# Altium schematic symbol library Device_sch_list.SchLib: 48 symbols
Pins are listed as number, name and electrical type; pins without a type are passive.

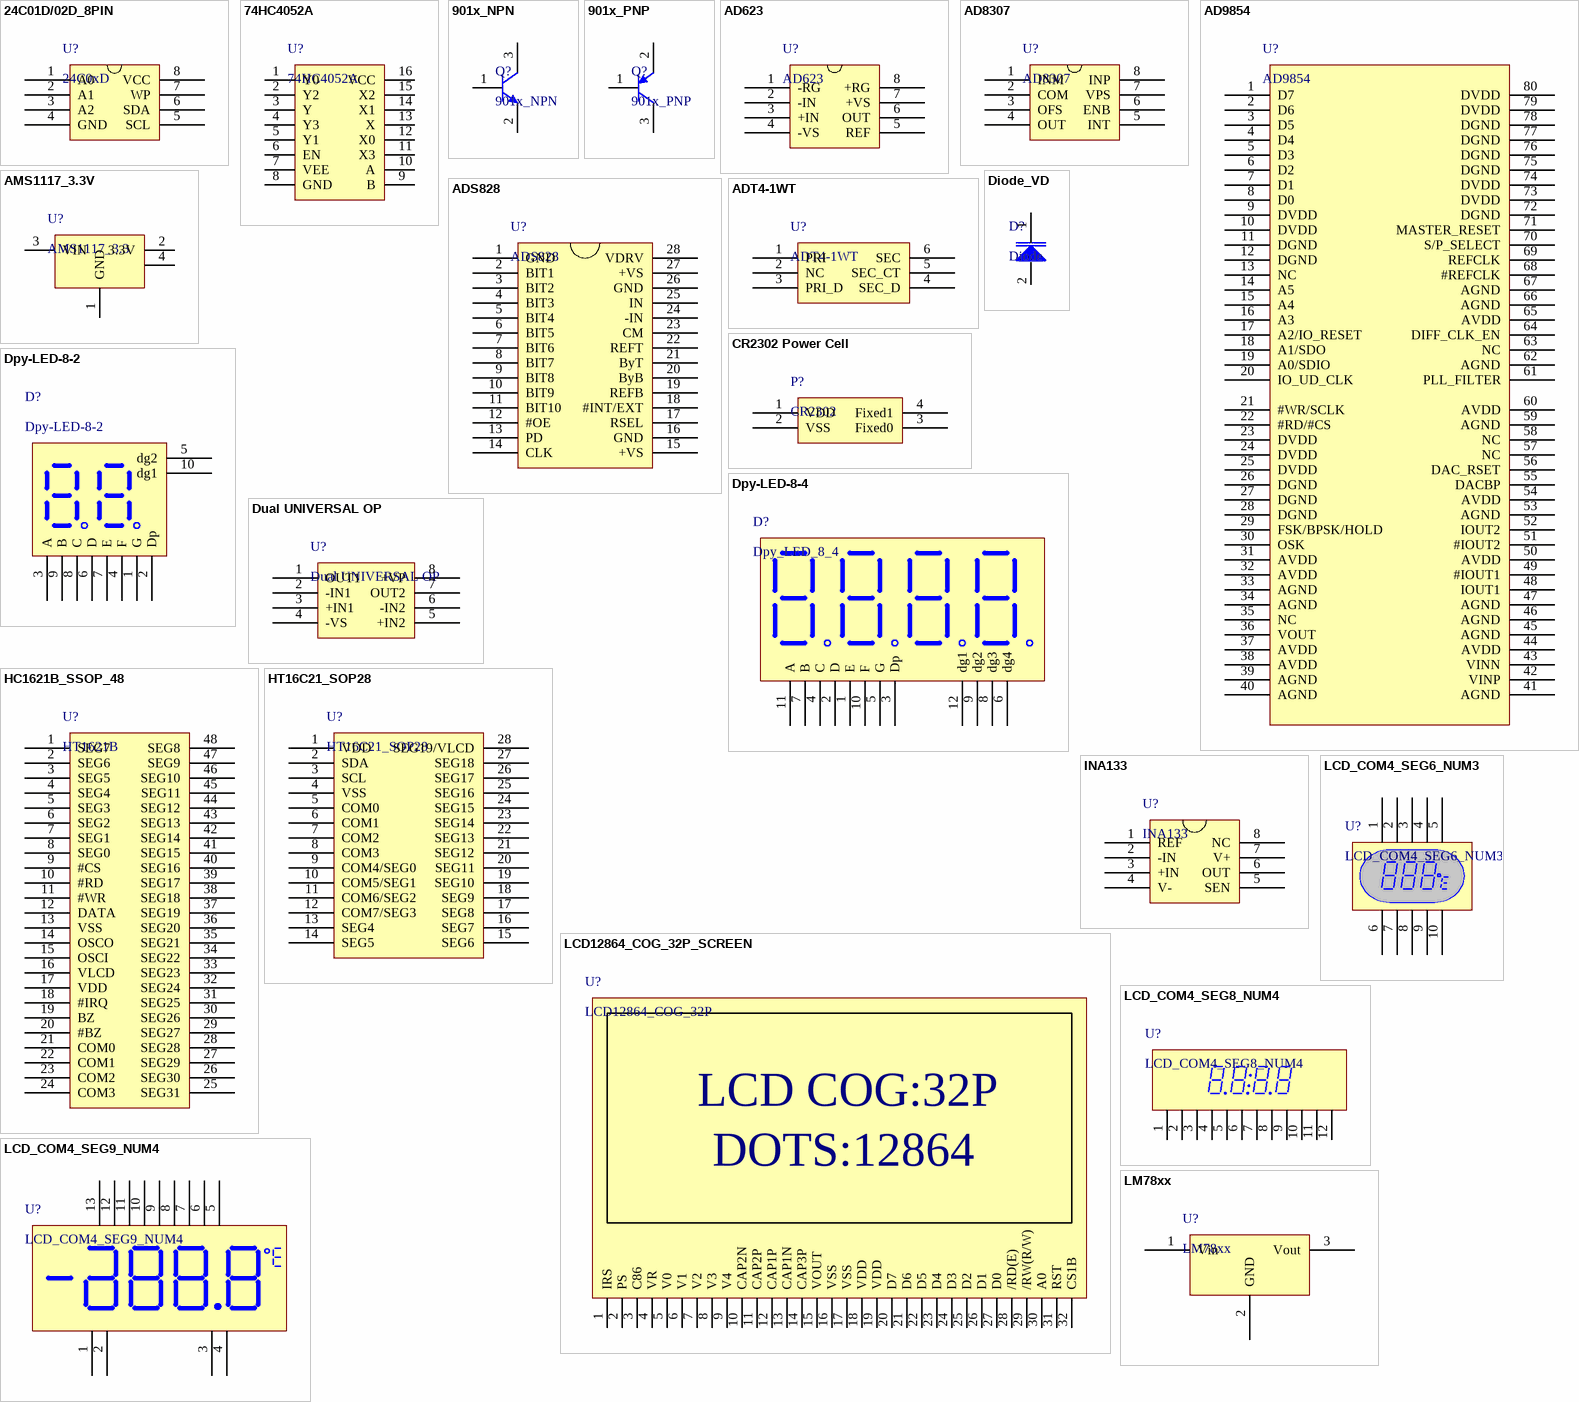
[diagram p0: symbols 24C01D/02D_8PIN to LM78xx]

## 24C01D/02D_8PIN
designator U?, comment 24C0xD
EEPROM with I2C BUS
pins: 1 A0, 2 A1, 3 A2, 4 GND, 5 SCL, 6 SDA, 7 WP, 8 VCC

## 74HC4052A
designator U?
74HC4052A is a common use analog switch.
footprint SO16
footprint SO16W
pins: 1 Y0, 2 Y2, 3 Y, 4 Y3, 5 Y1, 6 EN, 7 VEE, 8 GND, 9 B, 10 A, 11 X3, 12 X0, 13 X, 14 X1, 15 X2, 16 VCC

## 901x_NPN
designator Q?
BJT
footprint SOT-23
pins: 1 B, 2 E, 3 C

## 901x_PNP
designator Q?
footprint SOT-23
pins: 1 B, 2 E, 3 C

## AD623
designator U?
Instrument Amplifier
footprint SO-8
pins: 1 -RG, 2 -IN, 3 +IN, 4 -VS, 5 REF, 6 OUT, 7 +VS, 8 +RG

## AD8307
designator U?
LOG Amplifier 90dB DC to 900MHz
footprint SO8
pins: 1 INM, 2 COM, 3 OFS, 4 OUT, 5 INT, 6 ENB, 7 VPS, 8 INP

## AD9854
designator U?
DDS_300M
footprint TQFP80_with_Pad
pins: 1 D7, 2 D6, 3 D5, 4 D4, 5 D3, 6 D2, 7 D1, 8 D0, 9 DVDD, 10 DVDD, 11 DGND, 12 DGND, 13 NC, 14 A5, 15 A4, 16 A3, 17 A2/IO_RESET, 18 A1/SDO, 19 A0/SDIO, 20 IO_UD_CLK, 21 #WR/SCLK, 22 #RD/#CS, 23 DVDD, 24 DVDD, 25 DVDD, 26 DGND, 27 DGND, 28 DGND, 29 FSK/BPSK/HOLD, 30 OSK, 31 AVDD, 32 AVDD, 33 AGND, 34 AGND, 35 NC, 36 VOUT, 37 AVDD, 38 AVDD, 39 AGND, 40 AGND, 41 AGND, 42 VINP, 43 VINN, 44 AVDD, 45 AGND, 46 AGND, 47 AGND, 48 IOUT1, 49 #IOUT1, 50 AVDD, 51 #IOUT2, 52 IOUT2, 53 AGND, 54 AVDD, 55 DACBP, 56 DAC_RSET, 57 NC, 58 NC, 59 AGND, 60 AVDD, 61 PLL_FILTER, 62 AGND, 63 NC, 64 DIFF_CLK_EN, 65 AVDD, 66 AGND, 67 AGND, 68 #REFCLK, 69 REFCLK, 70 S/P_SELECT, 71 MASTER_RESET, 72 DGND, 73 DVDD, 74 DVDD, 75 DGND, 76 DGND, 77 DGND, 78 DGND, 79 DVDD, 80 DVDD

## ADS828
designator U?
High speed ADC with 10 bitwidth & differential port, 75MSPS max
footprint SSOP-28
pins: 1 GND, 2 BIT1, 3 BIT2, 4 BIT3, 5 BIT4, 6 BIT5, 7 BIT6, 8 BIT7, 9 BIT8, 10 BIT9, 11 BIT10, 12 #OE, 13 PD, 14 CLK, 15 +VS, 16 GND, 17 RSEL, 18 #INT/EXT, 19 REFB, 20 ByB, 21 ByT, 22 REFT, 23 CM, 24 -IN, 25 IN, 26 GND, 27 +VS, 28 VDRV

## ADT4-1WT
designator U?
IP Transformer
pins: 1 PRI, 2 NC, 3 PRI_D, 4 SEC_D, 5 SEC_CT, 6 SEC

## AMS1117_3.3V
designator U?, comment AMS1117_3.3
POWER_3.3V
pins: 1 GND, 2 3.3V, 3 VIN, 4 3.3V

## CR2302 Power Cell
designator P?, comment CR2302
CR2302 Power Cell
pins: 1 VDD, 2 VSS, 3 Fixed0, 4 Fixed1

## Diode_VD
designator D?, comment Diode
RF
pins: 1 14, 2 13

## Dpy-LED-8-2
designator D?
Led Segment
footprint LED_SEG_8_2 (LED_SEGMENT)
pins: 1 G, 2 Dp, 3 A, 4 F, 5 dg2, 6 D, 7 E, 8 C, 9 B, 10 dg1

## Dpy-LED-8-4
designator D?, comment Dpy_LED_8_4
Led Segment
footprint LED_SEG_8_4 (LED_SEGMENT)
pins: 1 E, 2 D, 3 Dp, 4 C, 5 G, 6 dg4, 7 B, 8 dg3, 9 dg2, 10 F, 11 A, 12 dg1

## Dual UNIVERSAL OP
designator U?
Dual Universal OP-Amplifier
footprint SO8
footprint DIP8
pins: 1 OUT1, 2 -IN1, 3 +IN1, 4 -VS, 5 +IN2, 6 -IN2, 7 OUT2, 8 +VP

## HC1621B_SSOP_48
designator U?, comment HT1621B
LCD Driver
footprint SSOP-48
pins: 1 SEG7, 2 SEG6, 3 SEG5, 4 SEG4, 5 SEG3, 6 SEG2, 7 SEG1, 8 SEG0, 9 #CS, 10 #RD, 11 #WR, 12 DATA, 13 VSS, 14 OSCO, 15 OSCI, 16 VLCD, 17 VDD, 18 #IRQ, 19 BZ, 20 #BZ, 21 COM0, 22 COM1, 23 COM2, 24 COM3, 25 SEG31, 26 SEG30, 27 SEG29, 28 SEG28, 29 SEG27, 30 SEG26, 31 SEG25, 32 SEG24, 33 SEG23, 34 SEG22, 35 SEG21, 36 SEG20, 37 SEG19, 38 SEG18, 39 SEG17, 40 SEG16, 41 SEG15, 42 SEG14, 43 SEG13, 44 SEG12, 45 SEG11, 46 SEG10, 47 SEG9, 48 SEG8

## HT16C21_SOP28
designator U?
SEG LCD Driver
footprint SOP28
pins: 1 VDD, 2 SDA, 3 SCL, 4 VSS, 5 COM0, 6 COM1, 7 COM2, 8 COM3, 9 COM4/SEG0, 10 COM5/SEG1, 11 COM6/SEG2, 12 COM7/SEG3, 13 SEG4, 14 SEG5, 15 SEG6, 16 SEG7, 17 SEG8, 18 SEG9, 19 SEG10, 20 SEG11, 21 SEG12, 22 SEG13, 23 SEG14, 24 SEG15, 25 SEG16, 26 SEG17, 27 SEG18, 28 SEG19/VLCD

## INA133
designator U?
Differential Amplifier
footprint SO-8
pins: 1 REF, 2 -IN, 3 +IN, 4 V-, 5 SEN, 6 OUT, 7 V+, 8 NC

## LCD12864_COG_32P_SCREEN
designator U?, comment LCD12864_COG_32P
LCD12864 COG 32PIN SCREEN
pins: 1 IRS, 2 PS, 3 C86, 4 VR, 5 V0, 6 V1, 7 V2, 8 V3, 9 V4, 10 CAP2N, 11 CAP2P, 12 CAP1P, 13 CAP1N, 14 CAP3P, 15 VOUT, 16 VSS, 17 VSS, 18 VDD, 19 VDD, 20 D7, 21 D6, 22 D5, 23 D4, 24 D3, 25 D2, 26 D1, 27 D0, 28 /RD(E), 29 /RW(R/W), 30 A0, 31 RST, 32 CS1B
text: LCD COG:32P; DOTS:12864

## LCD_COM4_SEG6_NUM3
designator U?
Segment LCD with 3 number and a symbol
pins: 1, 2, 3, 4, 5, 6, 7, 8, 9, 10

## LCD_COM4_SEG8_NUM4
designator U?
Segment LCD with 4 Number and 1 Symbol of dots
pins: 1, 2, 3, 4, 5, 6, 7, 8, 9, 10, 11, 12

## LCD_COM4_SEG9_NUM4
designator U?
SEG LCD with 4 NUM and 1symbol
pins: 1, 2, 3, 4, 5, 6, 7, 8, 9, 10, 11, 12, 13

## LM78xx
designator U?
Power_device
pins: 1 Vin, 2 GND, 3 Vout

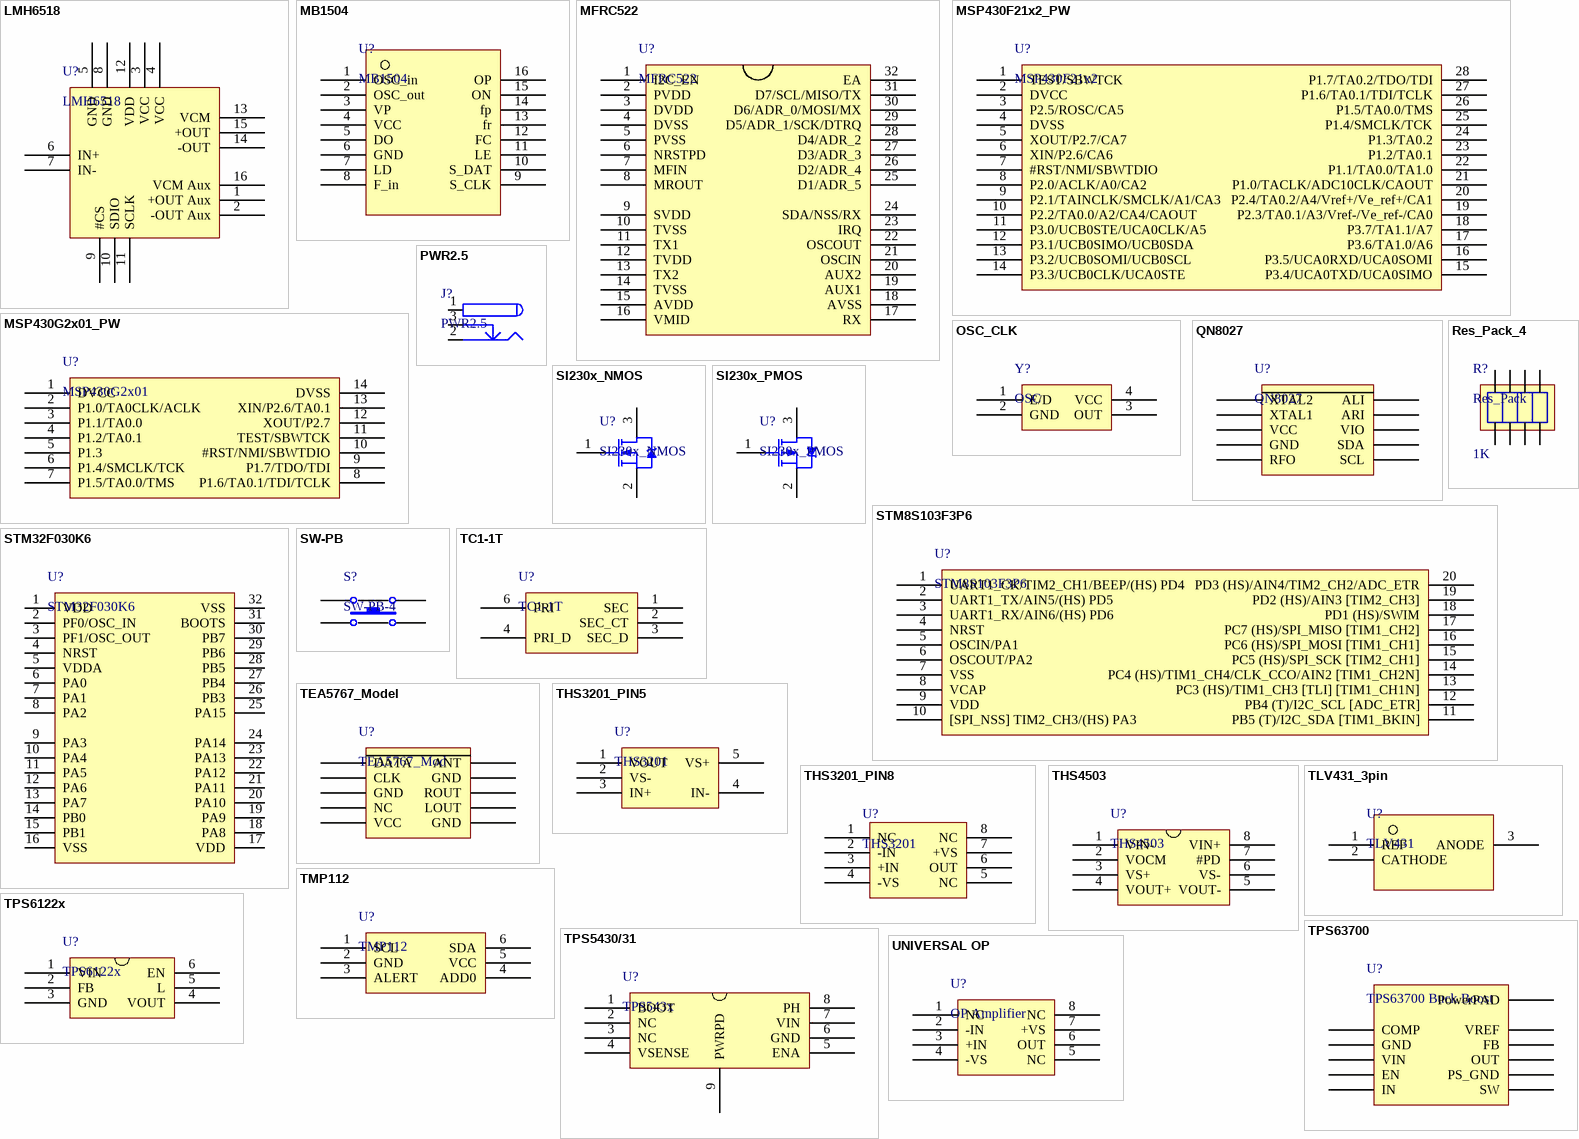
[diagram p1: symbols LMH6518 to UNIVERSAL OP]

## LMH6518
designator U?
VGA_900MHz
footprint RGV16_N (16-Pin Plastic Quad Flat No-Lead 0.65 mm Pitch, IPC Medium Density)
pins: 1 +OUT Aux, 2 -OUT Aux, 3 VCC, 4 VCC, 5 GND, 6 IN+, 7 IN-, 8 GND, 9 #CS, 10 SDIO, 11 SCLK, 12 VDD, 13 VCM, 14 -OUT, 15 +OUT, 16 VCM Aux

## MB1504
designator U?
pins: 1 OSC_in, 2 OSC_out, 3 VP, 4 VCC, 5 DO, 6 GND, 7 LD, 8 F_in, 9 S_CLK, 10 S_DAT, 11 LE, 12 FC, 13 fr, 14 fp, 15 ON, 16 OP

## MFRC522
designator U?
RFID_IC
footprint RHB32_L (32-Pin Plastic Quad Flat No-Lead 0.5 mm Pitch, IPC High Density)
pins: 1 I2C_EN, 2 PVDD, 3 DVDD, 4 DVSS, 5 PVSS, 6 NRSTPD, 7 MFIN, 8 MROUT, 9 SVDD, 10 TVSS, 11 TX1, 12 TVDD, 13 TX2, 14 TVSS, 15 AVDD, 16 VMID, 17 RX, 18 AVSS, 19 AUX1, 20 AUX2, 21 OSCIN, 22 OSCOUT, 23 IRQ, 24 SDA/NSS/RX, 25 D1/ADR_5, 26 D2/ADR_4, 27 D3/ADR_3, 28 D4/ADR_2, 29 D5/ADR_1/SCK/DTRQ, 30 D6/ADR_0/MOSI/MX, 31 D7/SCL/MISO/TX, 32 EA

## MSP430F21x2_PW
designator U?, comment MSP430F21x2
msp430f21x2 with 28 pins
pins: 1 TEST/SBWTCK, 2 DVCC, 3 P2.5/ROSC/CA5, 4 DVSS, 5 XOUT/P2.7/CA7, 6 XIN/P2.6/CA6, 7 #RST/NMI/SBWTDIO, 8 P2.0/ACLK/A0/CA2, 9 P2.1/TAINCLK/SMCLK/A1/CA3, 10 P2.2/TA0.0/A2/CA4/CAOUT, 11 P3.0/UCB0STE/UCA0CLK/A5, 12 P3.1/UCB0SIMO/UCB0SDA, 13 P3.2/UCB0SOMI/UCB0SCL, 14 P3.3/UCB0CLK/UCA0STE, 15 P3.4/UCA0TXD/UCA0SIMO, 16 P3.5/UCA0RXD/UCA0SOMI, 17 P3.6/TA1.0/A6, 18 P3.7/TA1.1/A7, 19 P2.3/TA0.1/A3/Vref-/Ve_ref-/CA0, 20 P2.4/TA0.2/A4/Vref+/Ve_ref+/CA1, 21 P1.0/TACLK/ADC10CLK/CAOUT, 22 P1.1/TA0.0/TA1.0, 23 P1.2/TA0.1, 24 P1.3/TA0.2, 25 P1.4/SMCLK/TCK, 26 P1.5/TA0.0/TMS, 27 P1.6/TA0.1/TDI/TCLK, 28 P1.7/TA0.2/TDO/TDI

## MSP430G2x01_PW
designator U?, comment MSP430G2x01
MSP430G2x01 with 14 Pins
footprint TSSOP14
pins: 1 DVCC, 2 P1.0/TA0CLK/ACLK, 3 P1.1/TA0.0, 4 P1.2/TA0.1, 5 P1.3, 6 P1.4/SMCLK/TCK, 7 P1.5/TA0.0/TMS, 8 P1.6/TA0.1/TDI/TCLK, 9 P1.7/TDO/TDI, 10 #RST/NMI/SBWTDIO, 11 TEST/SBWTCK, 12 XOUT/P2.7, 13 XIN/P2.6/TA0.1, 14 DVSS

## OSC_CLK
designator Y?, comment OSC
pins: 1 E/D, 2 GND, 3 OUT, 4 VCC

## PWR2.5
designator J?
Power
footprint Power_Jack_3_Lead (Power)
pins: 1 (power), 2 (power), 3 (power)

## QN8027
designator U?
QN8027 is a integered FM transmitter with power and frequency control.
pins: 1 XTAL2, 2 XTAL1, 3 VCC, 4 GND, 5 RFO, 6 SCL, 7 SDA, 8 VIO, 9 ARI, 10 ALI

## Res_Pack_4
designator R?, comment Res_Pack  value 1K
resistor
pins: 1, 2, 3, 4, 5, 6, 7, 8

## SI230x_NMOS
designator U?
Power_NMOS
footprint SOT-23
pins: 1 G, 2 S, 3 D

## SI230x_PMOS
designator U?
Power_PMOS
footprint SOT-23
pins: 1 G, 2 S, 3 D

## STM8S103F3P6
designator U?
STM8S MCU
footprint TSSOP20 (20-pin, 4.40 mm body, 0.65 mm pitch)
pins: 1 UART1_CK/TIM2_CH1/BEEP/(HS) PD4, 2 UART1_TX/AIN5/(HS) PD5, 3 UART1_RX/AIN6/(HS) PD6, 4 NRST, 5 OSCIN/PA1, 6 OSCOUT/PA2, 7 VSS, 8 VCAP, 9 VDD, 10 [SPI_NSS] TIM2_CH3/(HS) PA3, 11 PB5 (T)/I2C_SDA [TIM1_BKIN], 12 PB4 (T)/I2C_SCL [ADC_ETR], 13 PC3 (HS)/TIM1_CH3 [TLI] [TIM1_CH1N], 14 PC4 (HS)/TIM1_CH4/CLK_CCO/AIN2 [TIM1_CH2N], 15 PC5 (HS)/SPI_SCK [TIM2_CH1], 16 PC6 (HS)/SPI_MOSI [TIM1_CH1], 17 PC7 (HS)/SPI_MISO [TIM1_CH2], 18 PD1 (HS)/SWIM, 19 PD2 (HS)/AIN3 [TIM2_CH3], 20 PD3 (HS)/AIN4/TIM2_CH2/ADC_ETR

## STM32F030K6
designator U?
footprint TQFP32 (Thin QFP, 32-Leads, Body 7x7mm, Pitch 0.8mm, IPC Low Density)
pins: 1 VDD, 2 PF0/OSC_IN, 3 PF1/OSC_OUT, 4 NRST, 5 VDDA, 6 PA0, 7 PA1, 8 PA2, 9 PA3, 10 PA4, 11 PA5, 12 PA6, 13 PA7, 14 PB0, 15 PB1, 16 VSS, 17 VDD, 18 PA8, 19 PA9, 20 PA10, 21 PA11, 22 PA12, 23 PA13, 24 PA14, 25 PA15, 26 PB3, 27 PB4, 28 PB5, 29 PB6, 30 PB7, 31 BOOTS, 32 VSS

## SW-PB
designator S?, comment SW-PB-4
footprint SW_PB_4 (SW-PB with 4 Leads)
pins: 1, 2, 3, 4

## TC1-1T
designator U?
TC1-1T serial 50 ohme
footprint TC1-1T
pins: 1 SEC, 2 SEC_CT, 3 SEC_D, 4 PRI_D, 6 PRI

## TEA5767_Model
designator U?, comment TEA5767_Mod
A FM Receiver Block by TEA5767
pins: 1 DATA, 2 CLK, 3 GND, 4 NC, 5 VCC, 6 GND, 7 LOUT, 8 ROUT, 9 GND, 10 ANT

## THS3201_PIN5
designator U?, comment THS3201
THS3201 with 8 pins, High Speed AMP, CFB
footprint DBV005 (SOT-23/SC-74A; 5 Leads; Body 3 x 3 mm, inc. leads (LxW max))
pins: 1 VOUT, 2 VS-, 3 IN+, 4 IN-, 5 VS+

## THS3201_PIN8
designator U?, comment THS3201
THS3201 with 8 pins, High Speed AMP, CFB
pins: 1 NC, 2 -IN, 3 +IN, 4 -VS, 5 NC, 6 OUT, 7 +VS, 8 NC

## THS4503
designator U?
Differential Amp
footprint SO8
pins: 1 VIN-, 2 VOCM, 3 VS+, 4 VOUT+, 5 VOUT-, 6 VS-, 7 #PD, 8 VIN+

## TLV431_3pin
designator U?, comment TLV431
pins: 1 REF, 2 CATHODE, 3 ANODE

## TMP112
designator U?
TMP112 is a low power temperature chip with 0.5 resolution
pins: 1 SCL, 2 GND, 3 ALERT, 4 ADD0, 5 VCC, 6 SDA

## TPS5430/31
designator U?, comment TPS543x
POWER BULK TPS5430/31
pins: 1 BOOT, 2 NC, 3 NC, 4 VSENSE, 5 ENA, 6 GND, 7 VIN, 8 PH, 9 PWRPD

## TPS6122x
designator U?
Boost DC-DC
pins: 1 VIN, 2 FB, 3 GND, 4 VOUT, 5 L, 6 EN

## TPS63700
designator U?, comment TPS63700 Buck Boost
Buck Boost Power Chip invert 3.3V~5V to -12Vmax at 200mA
footprint TPS63700 (TPS63700 Buck Boost)
pins: 1 COMP, 2 GND, 3 VIN, 4 EN, 5 IN, 6 SW, 7 PS_GND, 8 OUT, 9 FB, 10 VREF, PowerPAD

## UNIVERSAL OP
designator U?, comment OP Amplifier
Universal OP with 8 Pins
pins: 1 NC, 2 -IN, 3 +IN, 4 -VS, 5 NC, 6 OUT, 7 +VS, 8 NC